# Altium schematic symbol library OPA2277.SchLib: 1 symbol
Pins are listed as number, name and electrical type; pins without a type are passive.

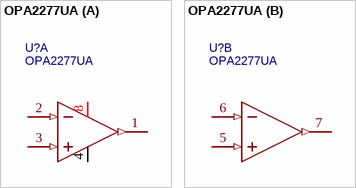
[diagram p0: symbol OPA2277UA]

## OPA2277UA
designator U?
10µV、0.1µV/˚C、高精度、低功耗运算放大器; subpart_no: 1; Manufacturer: TI(德州仪器); Manufacturer Part: OPA2277UA/2K5; tags: Precision Operational Amplifier; image: http://image.lceda.cn/szlcsc/C24460.jpg; Supplier Part: C24460; Supplier: LCSC; JLCPCB Part Class: Extended Part; spicePre: U; spiceSymbolName: OPA2277UA
footprint SOIC-8_L5.0-W4.0-P1.27-LS6.0-BL
part A pins: 1 OUT A (out), 2 IN A- (in), 3 IN A+ (in), 4 V- (power), 8 V+ (power)
part B pins: 5 +IN B (in), 6 -IN B (in), 7 OUT B (out)